# Altium footprint library IND_SMT.PcbLib: 21 footprints (part 2 of 2)
Each footprint in its own frame and in the unit in brackets; x right, y up, seen from the top. Pads: shape width x height; smd on the part's side, far side on the other; paste and mask are expansions set on the pad; w line width, h text height; cw(c..) or ccw(c..) is an arc to the next point about the centre after c.
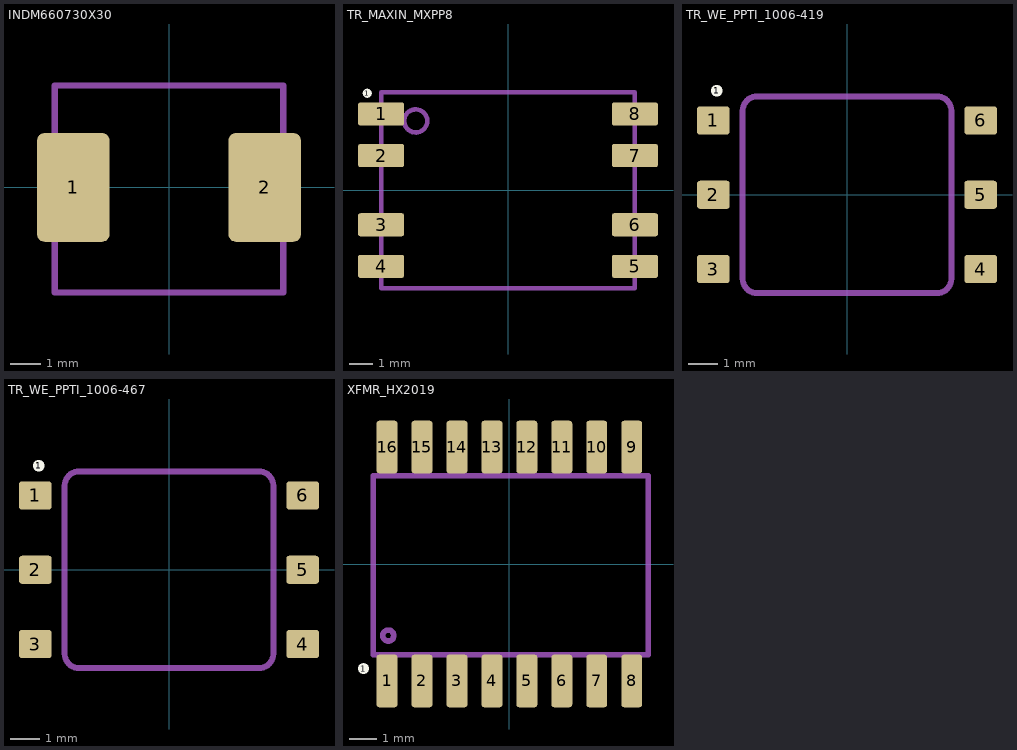
[diagram p1: the footprints below, top view; thin cyan lines are the x and y axes]

## INDM660730X30 [mm]
height 0.4
pads (2):
  rrect20% 2.35x3.52 smd: 1(-3.1,0) 2(3.1,0)
Top Assembly:
  lines w0.2: -3.7,-3.4 -3.7,3.3 3.7,3.3 3.7,-3.4 -3.7,-3.4
3D body: height 3, standoff 0, extent -3.675,-3.4 3.675,3.3
3D body: height 0.8, standoff 0, extent -3.7,-1.45 -3,1.45
3D body: height 0.8, standoff 0, extent 3,-1.45 3.7,1.45

## TR_MAXIN_MXPP8 [mm]
pads (9):
  round 0.4 on Top Overlay: 1(-6.1,4.2)
  rrect20% 2x1 smd: 1(-5.5,3.3) 2(-5.5,1.5) 3(-5.5,-1.5) 4(-5.5,-3.3) 5(5.5,-3.3) 6(5.5,-1.5) 7(5.5,1.5) 8(5.5,3.3)
Top Assembly:
  circle w0.2: c-4,3 r0.5
  lines w0.2: -5.5,-4.25 -5.5,4.25 5.5,4.25 5.5,-4.25 -5.5,-4.25
3D body: height 1.51, standoff 0.01, extent -6.1,3 -4.6,3.6
3D body: height 1.51, standoff 0.01, extent -6.1,1.2 -4.6,1.8
3D body: height 1.51, standoff 0.01, extent -6.1,-1.8 -4.6,-1.2
3D body: height 1.51, standoff 0.01, extent -6.1,-3.6 -4.6,-3
3D body: height 1.51, standoff 0.01, extent 4.6,-3.6 6.1,-3
3D body: height 1.51, standoff 0.01, extent 4.6,-1.8 6.1,-1.2
3D body: height 1.51, standoff 0.01, extent 4.6,1.2 6.1,1.8
3D body: height 1.51, standoff 0.01, extent 4.6,3 6.1,3.6
3D body: height 3.6, standoff 1, extent -5.5,-4.25 5.5,4.25
3D body: height 1, standoff 0.2, extent -3.5,-4.25 3.5,4.25
3D body: height 3.61, standoff 3.6, extent -5,2.75 -4,3.75

## TR_WE_PPTI_1006-419 [mm] "WE-PPTI push-pull-transformer, size 1006"
pads (7):
  rrect20% 1.12x0.96 smd: 1(-4.57,2.54) 2(-4.57,0) 3(-4.57,-2.54) 4(4.57,-2.54) 5(4.57,0) 6(4.57,2.54)
  round 0.4 on Top Overlay: 1(-4.455,3.559)
Top Assembly:
  lines w0.2: -3.57,-2.865 ccw(c-3.07,-2.865) -3.07,-3.365 3.07,-3.365 ccw(c3.07,-2.865) 3.57,-2.865 3.57,2.865 ccw(c3.07,2.865) 3.07,3.365 -3.07,3.365 ccw(c-3.07,2.865) -3.57,2.865 -3.57,-2.865
3D body: height 4.2, standoff 4.19, extent -2.8,1.6 -1.8,2.6
3D body: height 1.21, standoff 0.01, extent 3.5,2.29 5.1,2.79
3D body: height 1.21, standoff 0.01, extent 3.5,-0.25 5.1,0.25
3D body: height 1.21, standoff 0.01, extent 3.5,-2.79 5.1,-2.29
3D body: height 1.21, standoff 0.01, extent -5.1,-2.79 -3.5,-2.29
3D body: height 1.21, standoff 0.01, extent -5.1,2.29 -3.5,2.79
3D body: height 1.21, standoff 0.01, extent -5.1,-0.25 -3.5,0.25
3D body: height 4.19, standoff 0.5, extent -3.57,-3.365 3.57,3.365

## TR_WE_PPTI_1006-467 [mm] "WE-PPTI push-pull-transformer, size 1006"
pads (7):
  rrect20% 1.12x0.96 smd: 1(-4.57,2.54) 2(-4.57,0) 3(-4.57,-2.54) 4(4.57,-2.54) 5(4.57,0) 6(4.57,2.54)
  round 0.4 on Top Overlay: 1(-4.455,3.559)
Top Assembly:
  lines w0.2: -3.57,-2.865 ccw(c-3.07,-2.865) -3.07,-3.365 3.07,-3.365 ccw(c3.07,-2.865) 3.57,-2.865 3.57,2.865 ccw(c3.07,2.865) 3.07,3.365 -3.07,3.365 ccw(c-3.07,2.865) -3.57,2.865 -3.57,-2.865
3D body: height 4.67, standoff 0.5, extent -3.57,-3.365 3.57,3.365
3D body: height 1.21, standoff 0.01, extent -5.1,-0.25 -3.5,0.25
3D body: height 1.21, standoff 0.01, extent -5.1,2.29 -3.5,2.79
3D body: height 1.21, standoff 0.01, extent -5.1,-2.79 -3.5,-2.29
3D body: height 1.21, standoff 0.01, extent 3.5,-2.79 5.1,-2.29
3D body: height 1.21, standoff 0.01, extent 3.5,-0.25 5.1,0.25
3D body: height 1.21, standoff 0.01, extent 3.5,2.29 5.1,2.79
3D body: height 4.68, standoff 4.67, extent -2.8,1.6 -1.8,2.6

## XFMR_HX2019 [mm]
height 1.55
pads (17):
  round 0.4 on Top Overlay: 1(-5.3,-3.8)
  rrect25% 0.76x1.91 smd: 1(-4.445,-4.25) 2(-3.175,-4.25) 3(-1.905,-4.25) 4(-0.635,-4.25) 5(0.635,-4.25) 6(1.905,-4.25) 7(3.175,-4.25) 8(4.445,-4.25) 9(4.445,4.25) 10(3.175,4.25) 11(1.905,4.25) 12(0.635,4.25) 13(-0.635,4.25) 14(-1.905,4.25) 15(-3.175,4.25) 16(-4.445,4.25)
Top Assembly:
  circle w0.2: c-4.4,-2.6 r0.2
  lines w0.2: -4.645,-3.3 -4.645,-4.25 -4.245,-4.25 -4.245,-3.3 ; -4.645,3.2 -4.645,4.15 -4.245,4.15 -4.245,3.2 ; -3.375,-3.3 -3.375,-4.25 -2.975,-4.25 -2.975,-3.3 ; -3.362,3.222 -3.362,4.172 -2.962,4.172 -2.962,3.222 ; -2.105,-3.3 -2.105,-4.25 -1.705,-4.25 -1.705,-3.3 ; -2.105,3.2 -2.105,4.15 -1.705,4.15 -1.705,3.2 ; -0.835,-3.3 -0.835,-4.25 -0.435,-4.25 -0.435,-3.3 ; -0.835,3.2 -0.835,4.15 -0.435,4.15 -0.435,3.2 ; 0.435,-3.3 0.435,-4.25 0.835,-4.25 0.835,-3.3 ; 0.435,3.2 0.435,4.15 0.835,4.15 0.835,3.2 ; 1.705,-3.3 1.705,-4.25 2.105,-4.25 2.105,-3.3 ; 1.705,3.2 1.705,4.15 2.105,4.15 2.105,3.2 ; 2.975,-3.3 2.975,-4.25 3.375,-4.25 3.375,-3.3 ; 2.975,3.2 2.975,4.15 3.375,4.15 3.375,3.2 ; 4.245,-3.3 4.245,-4.25 4.645,-4.25 4.645,-3.3 ; 4.245,3.2 4.245,4.15 4.645,4.15 4.645,3.2 ; -4.94,-3.3 5.04,-3.3 5.04,3.2 -4.94,3.2 -4.94,-3.3
3D body "XFMR_HX2019.stp": height 5.97, standoff 0, extent -6.345,-4.825 6.345,4.825